# EAGLE library part LT1370T (library linear-technology)
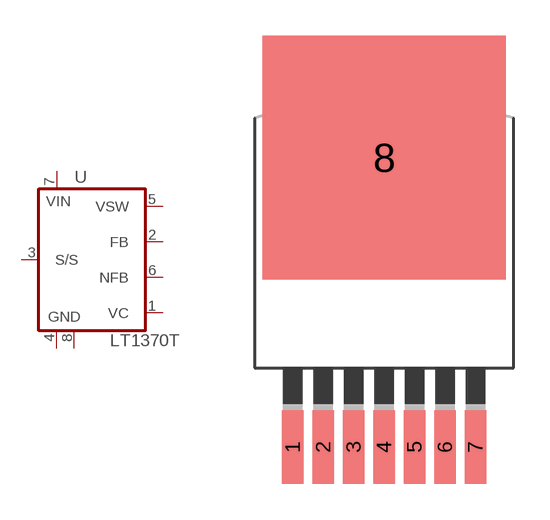
[diagram p6: symbol with the pads of DDPACK-7+TAB; footprint DDPACK-7+TAB]

Designator prefix U

## LT1370T  [DDPACK-7+TAB]
1  VC  in
2  FB  in
3  S/S  in
4  GND  pwr
5  VSW  in
6  NFB  pas
7  VIN  pwr
8  GND  pwr

## Footprint DDPACK-7+TAB (pad centres in mm)
DDPACK 7
smd 0.889 x 3.048: 1 -3.81,-8.255; 2 -2.54,-8.255; 3 -1.27,-8.255; 4 0,-8.255; 5 1.27,-8.255; 6 2.54,-8.255; 7 3.81,-8.255
smd 10.16 x 10.16: 8 0,3.81